# Altium schematic symbol library EC11EBB24C03.SchLib: 1 symbol
Pins are listed as number, name and electrical type; pins without a type are passive.

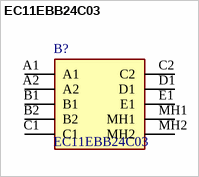
[diagram p0: symbol EC11EBB24C03]

## EC11EBB24C03
designator B?
Alps 15 Pulse Incremental Mechanical Rotary Encoder with a 3.5 (Inner Shaft) mm, 6 (Outer Shaft) mm; Manufacturer_Name: ALPS Electric; Geometry.Height: 33mm; Manufacturer_Part_Number: EC11EBB24C03; Mouser Part Number: 688-EC11EBB24C03; Mouser Price/Stock: https://www.mouser.co.uk/ProductDetail/Alps-Alpine/EC11EBB24C03?qs=m0BA540hBPc5hAJ6UyzIrA%3D%3D; Arrow Part Number: *; Arrow Price/Stock: *; Datasheet Link: https://componentsearchengine.com/Datasheets/2/EC11EBB24C03.pdf
footprint EC11EBB24C03
pins: A1, A2, B1, B2, C1, C2, D1, E1, MH1, MH2